# Altium integrated library MergenElektronik_Filters_FerriteBeads.IntLib: 1 symbol
Pins are listed as number, name and electrical type; pins without a type are passive.

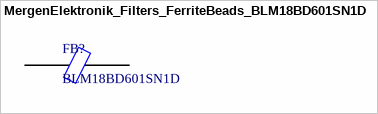
[diagram p0: symbol MergenElektronik_Filters_FerriteBeads_BLM18BD601SN1D]

## MergenElektronik_Filters_FerriteBeads_BLM18BD601SN1D
designator FB?, comment BLM18BD601SN1D
Mergen Elektronik - Filters - Ferrite Beads - BLM18BD601SN1D; Manufacturer: Murata Electronics; Impedance @ Frequency: 600 Ohms @ 100 MHz; Current Rating: 200mA; DC Resistance: 650mOhm; Manufacturer Number: BLM18BD601SN1D; Mounting Type: Surface Mount; Package: 0603(1608 Metric); Temperature: -55°C up to 125°C; Digi-Key Number: 490-1023-2-ND; Farnell Number: 1515713; Mouser Number: 81-BLM11B601S; Supplier 1: Digi-Key; Supplier 2: Mouser; Supplier Part Number 1: 490-1023-2-ND; Supplier Part Number 2: 81-BLM11B601S
footprint MergenElektronik_Filters_FerriteBeads_0603_L (0603 Large)
footprint MergenElektronik_Filters_FerriteBeads_0603_L_NS (0603 Large - No Silkscreen)
footprint MergenElektronik_Filters_FerriteBeads_0603_M (0603 Medium)
footprint MergenElektronik_Filters_FerriteBeads_0603_M_NS (0603 Medium - No Silkscreen)
footprint MergenElektronik_Filters_FerriteBeads_0603_S (0603 Small)
footprint MergenElektronik_Filters_FerriteBeads_0603_S_NS (0603 Small - No Silkscreen)
pins: 1, 2